# Altium schematic symbol library PowerBank-SCHLIB.SchLib: 16 symbols
Pins are listed as number, name and electrical type; pins without a type are passive.

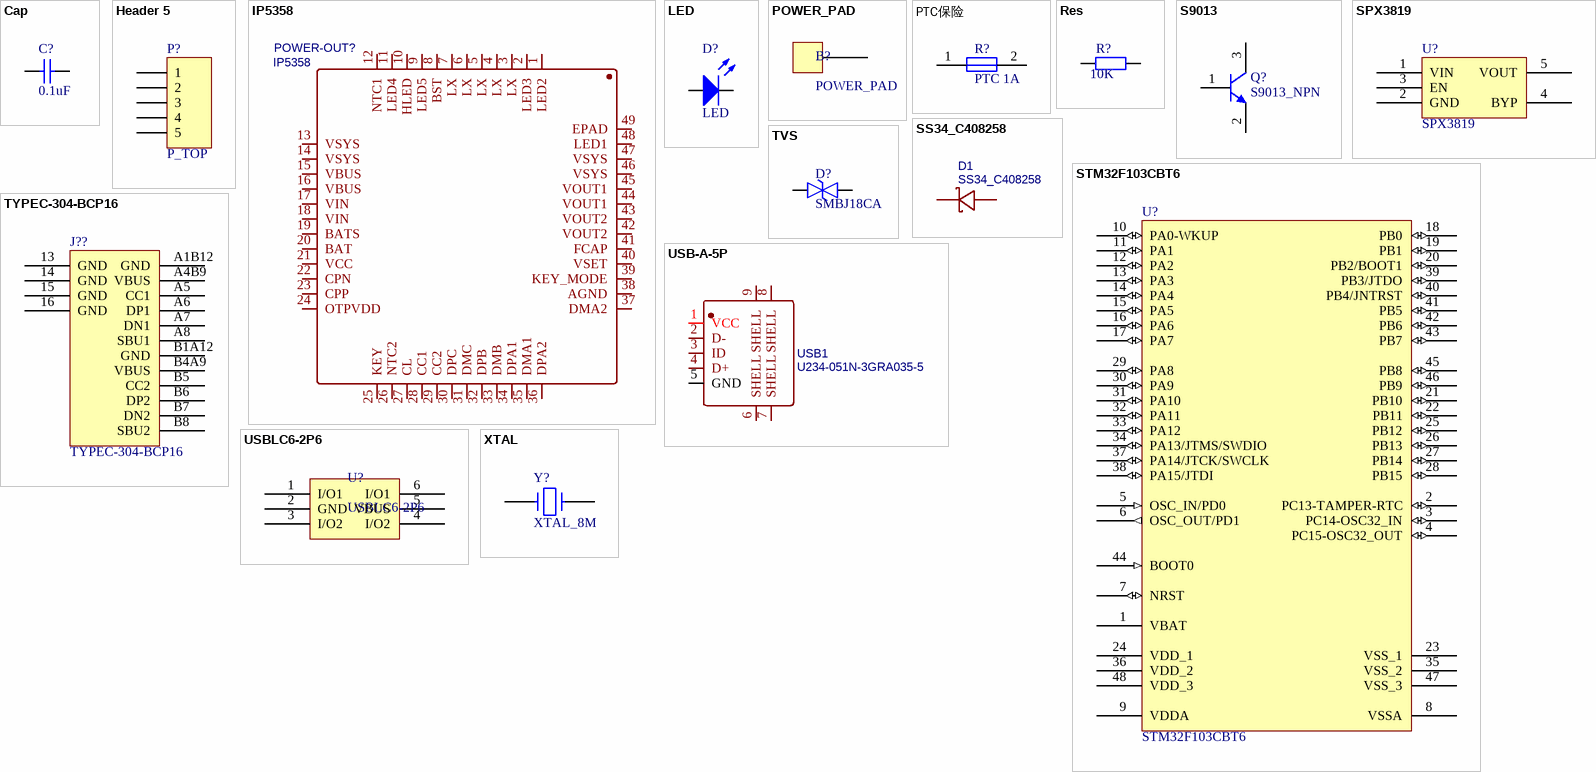
[diagram p0: symbols Cap to XTAL]

## Cap
designator C?  value 0.1uF  (hidden comment: Cap)
Capacitor; Published: 8-Jun-2000; LatestRevisionDate: 17-Jul-2002; LatestRevisionNote: Re-released for DXP Platform.; PackageReference: RAD-0.3; Publisher: Altium Limited; PackageDescription: Radial Cap, Thru-Hole; 2 Leads; 0.3 in Pin Spacing
simulation model CAP (Capacitor)
signal-integrity model Cap
footprint 0603C (Capasitor 0603)
footprint 0402C
pins: 1, 2

## Header 5
designator P?, comment P_TOP
Header, 5-Pin; LatestRevisionDate: 17-Jul-2002; LatestRevisionNote: Re-released for DXP Platform.; Publisher: Altium Limited
signal-integrity model Connector
footprint HEADER 5
pins: 1, 2, 3, 4, 5

## IP5358
designator POWER-OUT?
Contributor: Qmery2020_LoveWaiterSeries; spicePre: U; spiceSymbolName: IP5358
footprint IP5358
pins: 1 LED2, 2 LED3, 3 LX, 4 LX, 5 LX, 6 LX, 7 LX, 8 BST, 9 LED5, 10 HLED, 11 LED4, 12 NTC1, 13 VSYS, 14 VSYS, 15 VBUS, 16 VBUS, 17 VIN, 18 VIN, 19 BATS, 20 BAT, 21 VCC, 22 CPN, 23 CPP, 24 OTPVDD, 25 KEY, 26 NTC2, 27 CL, 28 CC1, 29 CC2, 30 DPC, 31 DMC, 32 DPB, 33 DMB, 34 DPA1, 35 DMA1, 36 DPA2, 37 DMA2, 38 AGND, 39 KEY_MODE, 40 VSET, 41 FCAP, 42 VOUT2, 43 VOUT2, 44 VOUT1, 45 VOUT1, 46 VSYS, 47 VSYS, 48 LED1, 49 EPAD

## LED
designator D?
Typical RED, GREEN, YELLOW, AMBER GaAs LED; Published: 8-Jun-2000; LatestRevisionDate: 17-Jul-2002; LatestRevisionNote: Re-released for DXP Platform.; PackageVersion: Feb-2002; PackageReference: 3.2X1.6X1.1; Publisher: Altium Limited; PackageDescription: SM LED; 2 Flat Leads
simulation model LED2 (Diode)
footprint 0603LED
pins: 1, 2

## POWER_PAD
designator B?
footprint POWER_PAD
pins: 1

## PTC保险
designator R?, comment PTC 1A
footprint PTC_1A
pins: 1, 2

## Res
designator R?, comment value 10K  (hidden comment: Res2)
Resistor; Published: 8-Jun-2000; LatestRevisionDate: 17-Jul-2002; LatestRevisionNote: Re-released for DXP Platform.; PackageReference: AXIAL-0.4; Publisher: Altium Limited; PackageDescription: Axial Device, Thru-Hole; 2 Leads; 0.4 in Pin Spacing
simulation model RESISTOR (Resistor)
signal-integrity model Res
footprint 0603R (RESISTOR)
footprint 0402R
pins: 1, 2

## S9013
designator Q?, comment S9013_NPN
Published: 8-Jun-2000; LatestRevisionDate: 15-Jan-2003; LatestRevisionNote: PCB Footprint 'BCY-W3/D4.7' replaced; DatasheetDocument: 1997; PackageDocument: Sep-1998; PackageReference: TO-92A; Publisher: Altium Limited; Code_JEDEC: TO-92A
footprint SOT-23-3 (S9013_NPN)
pins: 1 B, 2 E, 3 C

## SPX3819
designator U?
SPX3819_5VTO3V3_LDO
footprint SPX3819 (SPX3819_5VTO3V3_LDO)
pins: 1 VIN, 2 GND, 3 EN, 4 BYP, 5 VOUT

## SS34_C408258
designator D1
BOM_Manufacturer: SLKORMICRO Elec.; BOM_Manufacturer Part: SS34; Contributor: LCSC; BOM_Supplier: LCSC; BOM_Supplier Part: C408258; BOM_JLCPCB Part Class: Extended Part; spicePre: D; spiceSymbolName: SS34_C408258
footprint SS34-SMA (SMA)
pins: 1 C, 2 A

## STM32F103CBT6
designator U?
STM32 ARM-based 32-bit MCU with 64 Kbytes Flash, 48-pin LQFP, Industrial Temperature; Published: 30-May-2008; DatasheetVersion: rev6, Mar-2008; PackageVersion: Mar-2008; PackageReference: LQFP48; Publisher: Altium Limited; PackageDescription: 48-Pin Low-Profile Quad Flat Pack, 7 x 7 mm Body, 0.5 mm Pitch (LQFP48); ComponentLink1Description: Manufacturer Link; ComponentLink1URL: www.st.com/stm32; ComponentLink2Description: Datasheet; ComponentLink2URL: http://www.st.com/stonline/products/literature/ds/13587.pdf
footprint LQFP48_N (Thin QFP, 48-Leads, Body 7x7mm, Pitch 0.5mm, IPC Medium Density)
pins: 1 VBAT (power), 2 PC13-TAMPER-RTC (io), 3 PC14-OSC32_IN (io), 4 PC15-OSC32_OUT (io), 5 OSC_IN/PD0 (in), 6 OSC_OUT/PD1 (out), 7 NRST (io), 8 VSSA (power), 9 VDDA (power), 10 PA0-WKUP (io), 11 PA1 (io), 12 PA2 (io), 13 PA3 (io), 14 PA4 (io), 15 PA5 (io), 16 PA6 (io), 17 PA7 (io), 18 PB0 (io), 19 PB1 (io), 20 PB2/BOOT1 (io), 21 PB10 (io), 22 PB11 (io), 23 VSS_1 (power), 24 VDD_1 (power), 25 PB12 (io), 26 PB13 (io), 27 PB14 (io), 28 PB15 (io), 29 PA8 (io), 30 PA9 (io), 31 PA10 (io), 32 PA11 (io), 33 PA12 (io), 34 PA13/JTMS/SWDIO (io), 35 VSS_2 (power), 36 VDD_2 (power), 37 PA14/JTCK/SWCLK (io), 38 PA15/JTDI (io), 39 PB3/JTDO (io), 40 PB4/JNTRST (io), 41 PB5 (io), 42 PB6 (io), 43 PB7 (io), 44 BOOT0 (in), 45 PB8 (io), 46 PB9 (io), 47 VSS_3 (power), 48 VDD_3 (power)

## TVS
designator D?, comment SMBJ18CA
18V
footprint TVS (SMB(DO-214AA))
pins: 1, 2

## TYPEC-304-BCP16
designator J??
TYPEC-16P
footprint TYPE-C-16P
pins: 13 GND, 14 GND, 15 GND, 16 GND, A1B12 GND, A4B9 VBUS, A5 CC1, A6 DP1, A7 DN1, A8 SBU1, B1A12 GND, B4A9 VBUS, B5 CC2, B6 DP2, B7 DN2, B8 SBU2

## USB-A-5P
designator USB1, comment U234-051N-3GRA035-5
BOM_Manufacturer: XKB Enterprise; Contributor: LCSC; BOM_Supplier: LCSC; BOM_Supplier Part: C381138; BOM_Manufacturer Part: U234-051N-3GRA035-5; BOM_JLCPCB Part Class: Extended Part; spicePre: U; spiceSymbolName: U234-051N-3GRA035-5
footprint USB-A-5P (USB-A-5PIN大电流)
pins: 1 VCC, 2 D-, 3 ID, 4 D+, 5 GND, 6 SHELL, 7 SHELL, 8 SHELL, 9 SHELL

## USBLC6-2P6
designator U?
ESD PROTECTION
footprint USBLC6-2P6 (ESD PROTECTION)
pins: 1 I/O1, 2 GND, 3 I/O2, 4 I/O2, 5 VBUS, 6 I/O1

## XTAL
designator Y?, comment XTAL_8M
footprint SMD-5032_2P (8M XTAL)
pins: 1, 2